# Altium footprint library SOIC8P254_955X960X370L92X154N.PcbLib: 1 footprints
Each footprint in its own frame and in the unit in brackets; x right, y up, seen from the top. Pads: shape width x height; smd on the part's side, far side on the other; paste and mask are expansions set on the pad; w line width, h text height; cw(c..) or ccw(c..) is an arc to the next point about the centre after c.
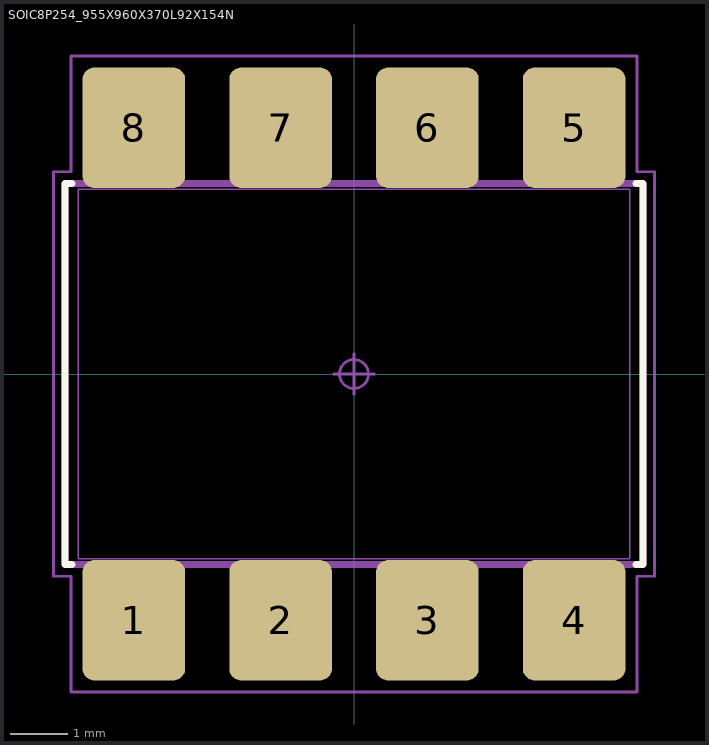
[diagram p0: the footprint, top view; thin cyan lines are the x and y axes]

## SOIC8P254_955X960X370L92X154N [mm] "Small Outline IC (SOIC), 2.54 mm pitch; 8 pin, 9.55 mm L X 6.40 mm W X 3.70 mm H body"
height 3.7
pads (8):
  rrect23% 1.777x2.085 smd: 1(-3.81,-4.263) 2(-1.27,-4.263) 3(1.27,-4.263) 4(3.81,-4.263) 5(3.81,4.263) 6(1.27,4.263) 7(-1.27,4.263) 8(-3.81,4.263)
Top Overlay:
  lines w0.12: -4.878,-3.3 -5,-3.3 -5,3.3 -4.878,3.3 ; 4.878,-3.3 5,-3.3 5,3.3 4.878,3.3
Mechanical 3:
  lines w0.12: -5,-3.3 5,-3.3 5,3.3 -5,3.3 -5,-3.3
Mechanical 5:
  lines w0.025: -4.583,-4.8 -4.583,-3.88 -3.037,-3.88 -3.037,-4.8 -4.583,-4.8 ; -4.583,3.88 -4.583,4.8 -3.037,4.8 -3.037,3.88 -4.583,3.88 ; -2.043,-4.8 -2.043,-3.88 -0.497,-3.88 -0.497,-4.8 -2.043,-4.8 ; -2.043,3.88 -2.043,4.8 -0.497,4.8 -0.497,3.88 -2.043,3.88 ; 0.497,-4.8 0.497,-3.88 2.043,-3.88 2.043,-4.8 0.497,-4.8 ; 0.497,3.88 0.497,4.8 2.043,4.8 2.043,3.88 0.497,3.88 ; 3.037,-4.8 3.037,-3.88 4.583,-3.88 4.583,-4.8 3.037,-4.8 ; 3.037,3.88 3.037,4.8 4.583,4.8 4.583,3.88 3.037,3.88
Mechanical 7:
  circle w0.05: c0,0 r0.25
  lines w0.025: -4.775,-3.2 4.775,-3.2 4.775,3.2 -4.775,3.2 -4.775,-3.2
  lines w0.05: -0.35,0 0.35,0 ; 0,-0.35 0,0.35 ; -5.2,-3.5 -4.898,-3.5 -4.898,-5.506 4.898,-5.506 4.898,-3.5 5.2,-3.5 5.2,3.5 4.898,3.5 4.898,5.506 -4.898,5.506 -4.898,3.5 -5.2,3.5 -5.2,-3.5
3D body "SOIC8P254_955X960X370L92X154.STEP": height 3.7, standoff 0, extent -4.775,-4.8 4.775,4.8